# EAGLE library part NSJ12HC (library con-neutrik_ag)
Dual 1/4" Stereo Phone Connector STACKED STEREO CONNECTOR
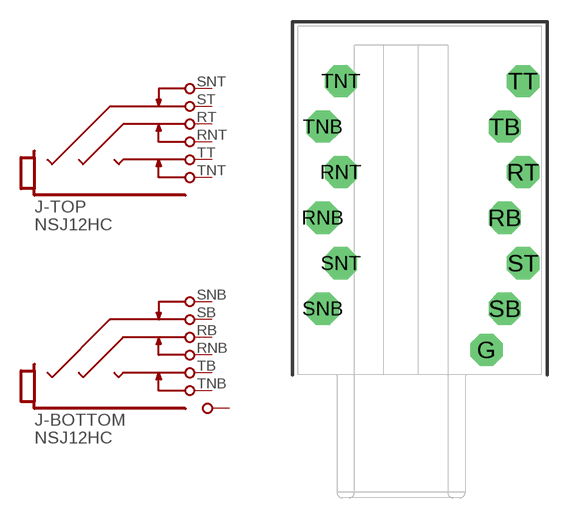
[diagram p4: symbol with the pads of NSJ12HC; footprint NSJ12HC]

Designator prefix J; gates -TOP=NSJ12HC -BOTTOM=NSJ12HC G$1=CGND-PIN

## NSJ12HC  [NSJ12HC]
G  G$1:G  pas
RB  -BOTTOM:R  pas
RNB  -BOTTOM:RN  pas
RNT  -TOP:RN  pas
RT  -TOP:R  pas
SB  -BOTTOM:S  pas
SNB  -BOTTOM:SN  pas
SNT  -TOP:SN  pas
ST  -TOP:S  pas
TB  -BOTTOM:T  pas
TNB  -BOTTOM:TN  pas
TNT  -TOP:TN  pas
TT  -TOP:T  pas

## Footprint NSJ12HC (pad centres in mm)
Stereo Phone Connector 1/4" STACKED STEREO HORIZ W/CNTR SCR
drill 1.5 octagon: G 5.96,1.73; RB 7.23,10.95; RNB -5.47,10.95; RNT -4.2,14.13; RT 8.5,14.13; SB 7.23,4.61; SNB -5.47,4.61; SNT -4.2,7.78; ST 8.5,7.78; TB 7.23,17.3; TNB -5.47,17.3; TNT -4.2,20.48; TT 8.5,20.48